# EAGLE library part MOLEX_MX150_20PIN (library HyTechDeprecated)
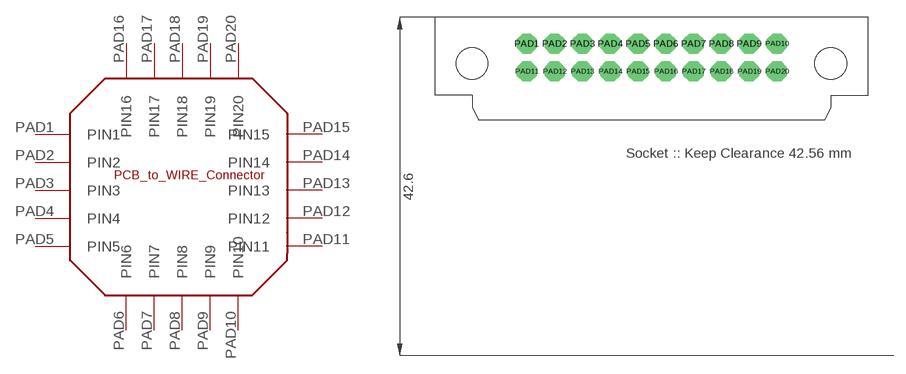
[diagram p5: symbol with the pads of MOLEX_MX150_20PIN; footprint MOLEX_MX150_20PIN]

Designator prefix -

## MOLEX_MX150_20PIN34830-2001  [MOLEX_MX150_20PIN]
PAD1  PIN1
PAD2  PIN2
PAD3  PIN3
PAD4  PIN4
PAD5  PIN5
PAD6  PIN6
PAD7  PIN7
PAD8  PIN8
PAD9  PIN9
PAD10  PIN10
PAD11  PIN11
PAD12  PIN12
PAD13  PIN13
PAD14  PIN14
PAD15  PIN15
PAD16  PIN16
PAD17  PIN17
PAD18  PIN18
PAD19  PIN19
PAD20  PIN20

## Footprint MOLEX_MX150_20PIN (pad centres in mm)
MOLEX 34830 - 2001 2*10 CONNECTOR PCB Headers, 22.0 A/250 V (TH) Cu Alloy: 22.62 gms.
drill 1.5 pad 2.54 octagon: PAD1 -15.7,0; PAD2 -12.2,0; PAD3 -8.7,0; PAD4 -5.2,0; PAD5 -1.7,0; PAD6 1.8,0; PAD7 5.3,0; PAD8 8.8,0; PAD9 12.3,0; PAD10 15.8,0; PAD11 -15.7,-3.5; PAD12 -12.2,-3.5; PAD13 -8.7,-3.5; PAD14 -5.2,-3.5; PAD15 -1.7,-3.5; PAD16 1.8,-3.5; PAD17 5.3,-3.5; PAD18 8.8,-3.5; PAD19 12.3,-3.5; PAD20 15.8,-3.5
hole 4 at -22.6,-2.5
hole 4 at 22.6,-2.5